# EAGLE library part NA555DR (library NA555DR)
Precision Timers 8-SOIC -40 to 105
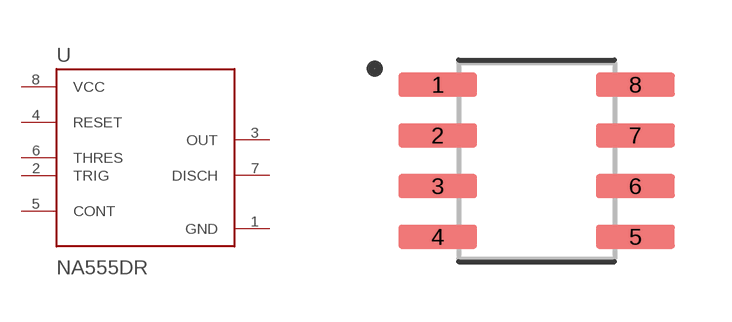
[diagram p0: symbol with the pads of SOIC127P599X175-8N; footprint SOIC127P599X175-8N]

Designator prefix U

## NA555DR (MANUFACTURER: Texas Instruments; MAXIMUM_PACKAGE_HEIGHT: 1.75mm; PARTREV: I; STANDARD: IPC-7351B)  [SOIC127P599X175-8N]
1  GND  pwr
2  TRIG  in
3  OUT  out
4  RESET  in
5  CONT
6  THRES  in
7  DISCH  out
8  VCC  pwr

## Footprint SOIC127P599X175-8N (pad centres in mm)
smd 1.97 x 0.6: 1 -2.47,1.905; 2 -2.47,0.635; 3 -2.47,-0.635; 4 -2.47,-1.905; 5 2.47,-1.905; 6 2.47,-0.635; 7 2.47,0.635; 8 2.47,1.905